# Altium integrated library TI Data Converters Analog to Digital Converter.IntLib: 2197 symbols (part 77 of 168)
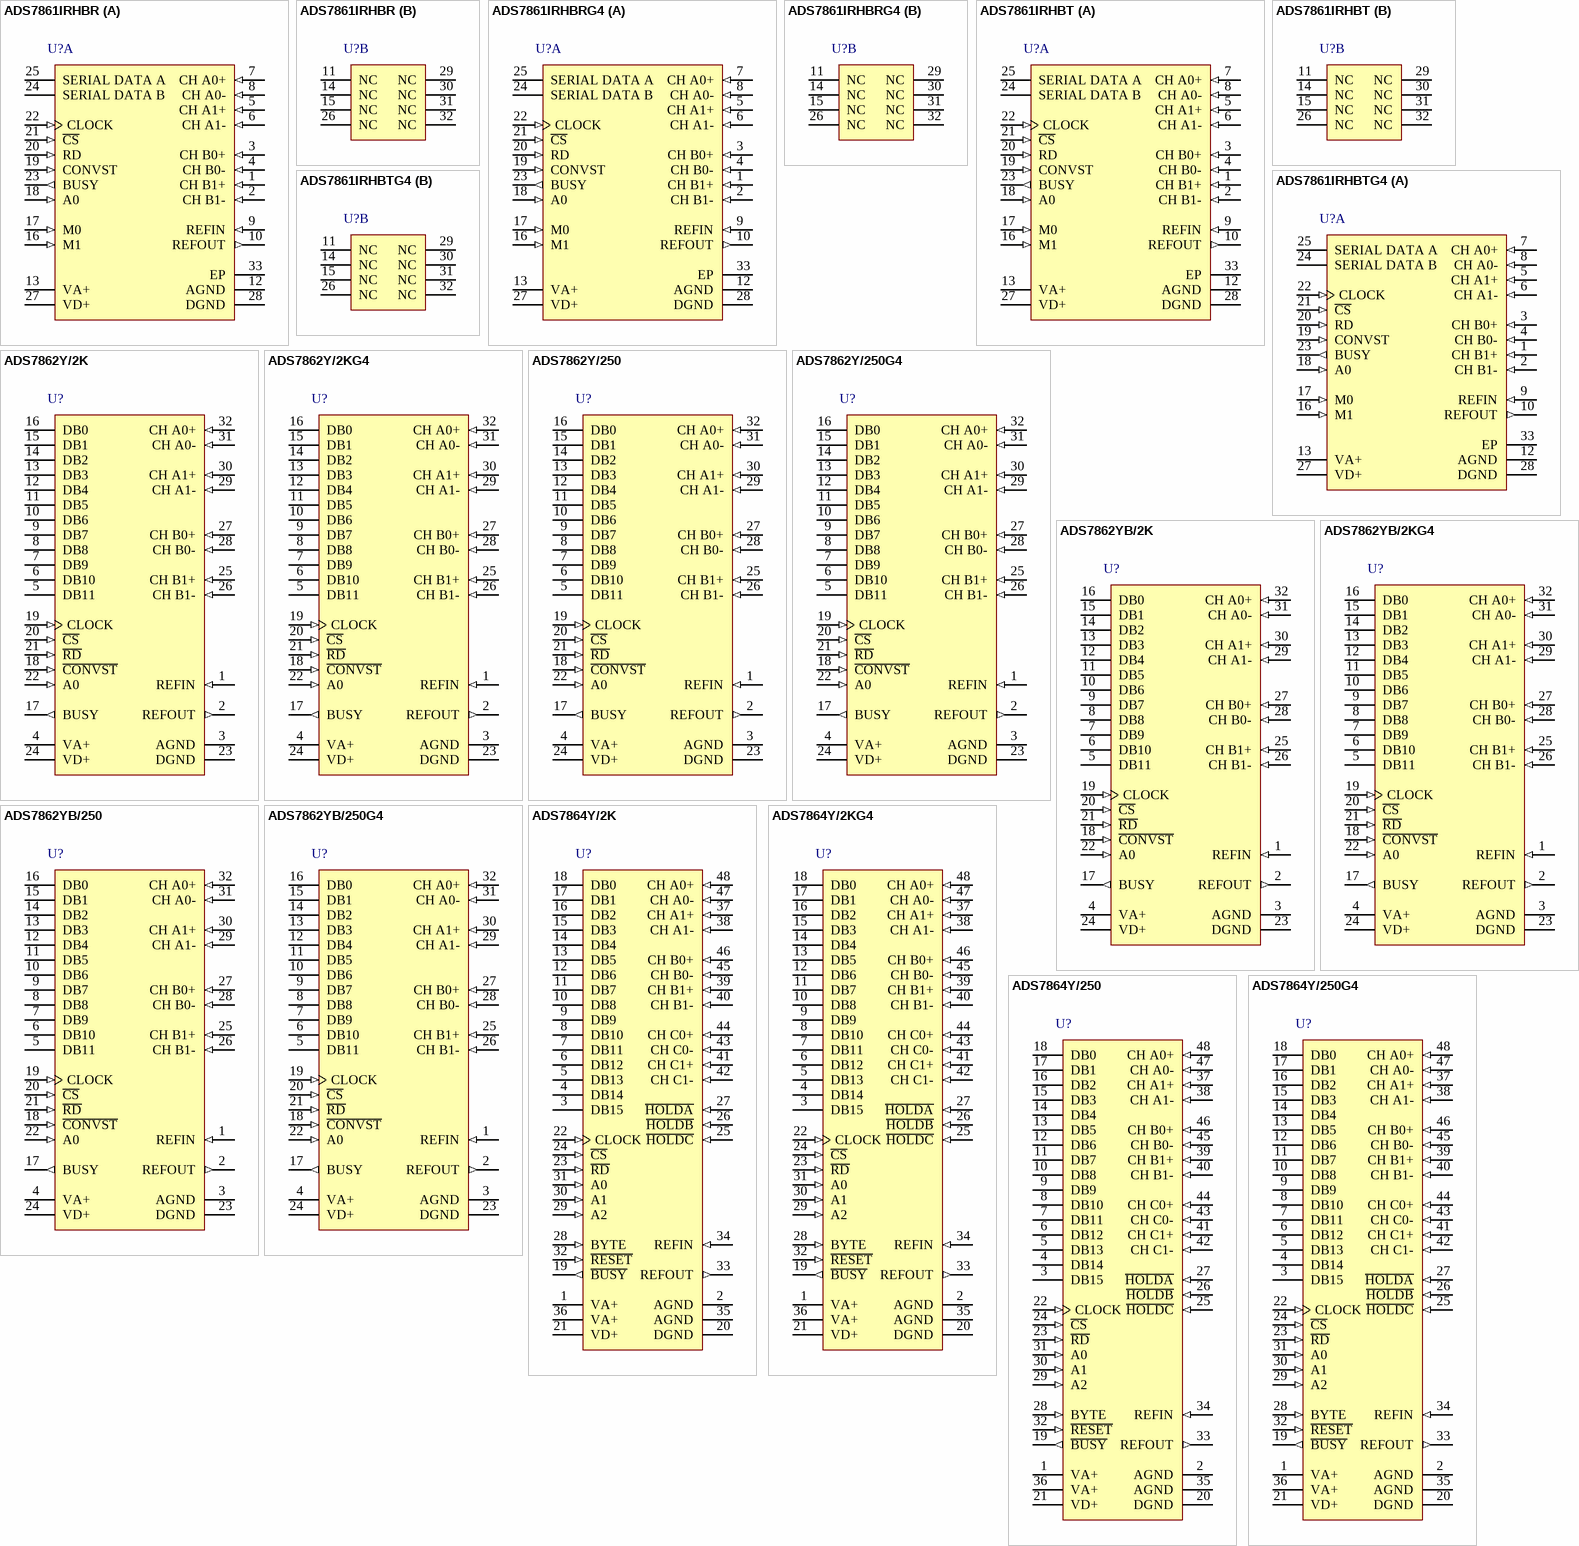
[diagram p202: symbols ADS7861IRHBR to ADS7864Y/250G4]

## ADS7864Y/250G4
designator U?
500 kHz, 12-Bit, 6-Channel Simultaneous Sampling ADC, -40 to 85 degC, 48-pin QFP (PFB48), Green (RoHS & no Sb/Br); Manufacturer: Texas Instruments; PartNumber: ADS7864Y/250G4; # Input Channels: 6; Analog Voltage AV/DD(Max)(V): 5.25; Analog Voltage AV/DD(Min)(V): 4.75; Architecture: SAR; INL(Max)(+/-LSB): 2; Interface: Parallel CMOS; Resolution(Bits): 12; Sample Rate (max)(SPS): 500k; SFDR(dB): 78; SINAD(dB): 71; SubFamily: Precision ADC (<=10MSPS); DatasheetVersion: SBAS141A; PackageVersion: 4073176/B, 10/1996; PackageReference: PFB48; PackageDescription: 48-Pin Plastic Flat Pack, Body 7 x 7 mm, Pitch 0.5 mm; Supplier 1: Digi-Key; Supplier Part Number 1: ADS7862Y/2K-ND; Supplier 2: Newark; Supplier Part Number 2: 74C7192; Supplier 3: Mouser; Supplier Part Number 3: 595-ADS7862Y/2K; Digital Supply(Max)(V): 5.25; Digital Supply(Min)(V): 4.75; Eco-Plan: Green (RoHS & no Sb/Br); Mounting Technology: Surface Mount; Code_JEDEC: MS-026; ComponentLink1Description: Manufacturer URL; ComponentLink1URL: http://www.ti.com/; ComponentLink2Description: Datasheet; ComponentLink2URL: http://www.ti.com/general/docs/lit/getliterature.tsp?genericPartNumber=ADS7864&fileType=pdf; ComponentLink3Description: Package Specification; ComponentLink3URL: http://www.ti.com/lit/ml/mtqf019a/mtqf019a.pdf
footprint TI-PFB48_N (QFP, 48-Leads, Body 7x7mm, Pitch 0.5mm, IPC Medium Density)
footprint TI-PFB48_L (QFP, 48-Leads, Body 7x7mm, Pitch 0.5mm, IPC High Density)
footprint TI-PFB48_M (QFP, 48-Leads, Body 7x7mm, Pitch 0.5mm, IPC Low Density)
pins: 1 VA+ (power) "Analog Power Supply. Normally +5V.", 2 AGND (power) "Analog Ground", 3 DB15 (hiz) "Data Valid Output: ‘1’ for data valid; ‘0’ for invalid data.", 4 DB14 (hiz) "Channel Address Output Pin (see Table 2)", 5 DB13 (hiz) "Channel Address Output Pin (see Table 2)", 6 DB12 (hiz) "Channel Address Output Pin (see Table 2)", 7 DB11 (hiz) "Data Bit 11 - MSB", 8 DB10 (hiz) "Data Bit 10", 9 DB9 (hiz) "Data Bit 9", 10 DB8 (hiz) "Data Bit 8", 11 DB7 (hiz) "Data Bit 7", 12 DB6 (hiz) "Data Bit 6", 13 DB5 (hiz) "Data Bit 5", 14 DB4 (hiz) "Data Bit 4", 15 DB3 (hiz) "Data Bit 3", 16 DB2 (hiz) "Data Bit 2", 17 DB1 (hiz) "Data Bit 1", 18 DB0 (hiz) "Data Bit 0 - LSB", 19 ~{BUSY} (out) "Low when a conversion is in progress.", 20 DGND (power) "Digital Ground", 21 VD+ (power) "Digital Power Supply, +5VDC", 22 CLOCK (in) "An external clock must be applied to the CLOCK input.", 23 ~{RD} (in) "RD Input. Enables the parallel output when used in conjunction with chip select.", 24 ~{CS} (in) "Chip Select", 25 ~{HOLDC} (in) "Places Channels C0 and C1 in hold mode.", 26 ~{HOLDB} (in) "Places Channels B0 and B1 in hold mode.", 27 ~{HOLDA} (in) "Places Channels A0 and A1 in hold mode.", 28 BYTE (in) "2 x 8 Output Capability. Active high.", 29 A2 (in) "A2 Address/Mode Select Pin (see Table 3).", 30 A1 (in) "A1 Address/Mode Select Pin (see Table 3).", 31 A0 (in) "A0 Address/Mode Select Pin (see Table 3).", 32 ~{RESET} (in) "Reset Pin", 33 REFOUT (out) "Reference Out", 34 REFIN (in) "Reference In", 35 AGND (power) "Analog Ground", 36 VA+ (power) "Analog Power Supply. Normally +5V.", 37 CH A1+ (in) "Noninverting Input Channel A1", 38 CH A1- (in) "Inverting Input Channel A1", 39 CH B1+ (in) "Noninverting Input Channel B1", 40 CH B1- (in) "Inverting Input Channel B1", 41 CH C1+ (in) "Noninverting Input Channel C1", 42 CH C1- (in) "Inverting Input Channel C1", 43 CH C0- (in) "Inverting Input Channel C0", 44 CH C0+ (in) "Noninverting Input Channel C0", 45 CH B0- (in) "Inverting Input Channel B0", 46 CH B0+ (in) "Noninverting Input Channel B0", 47 CH A0- (in) "Inverting Input Channel A0", 48 CH A0+ (in) "Noninverting Input Channel A0"

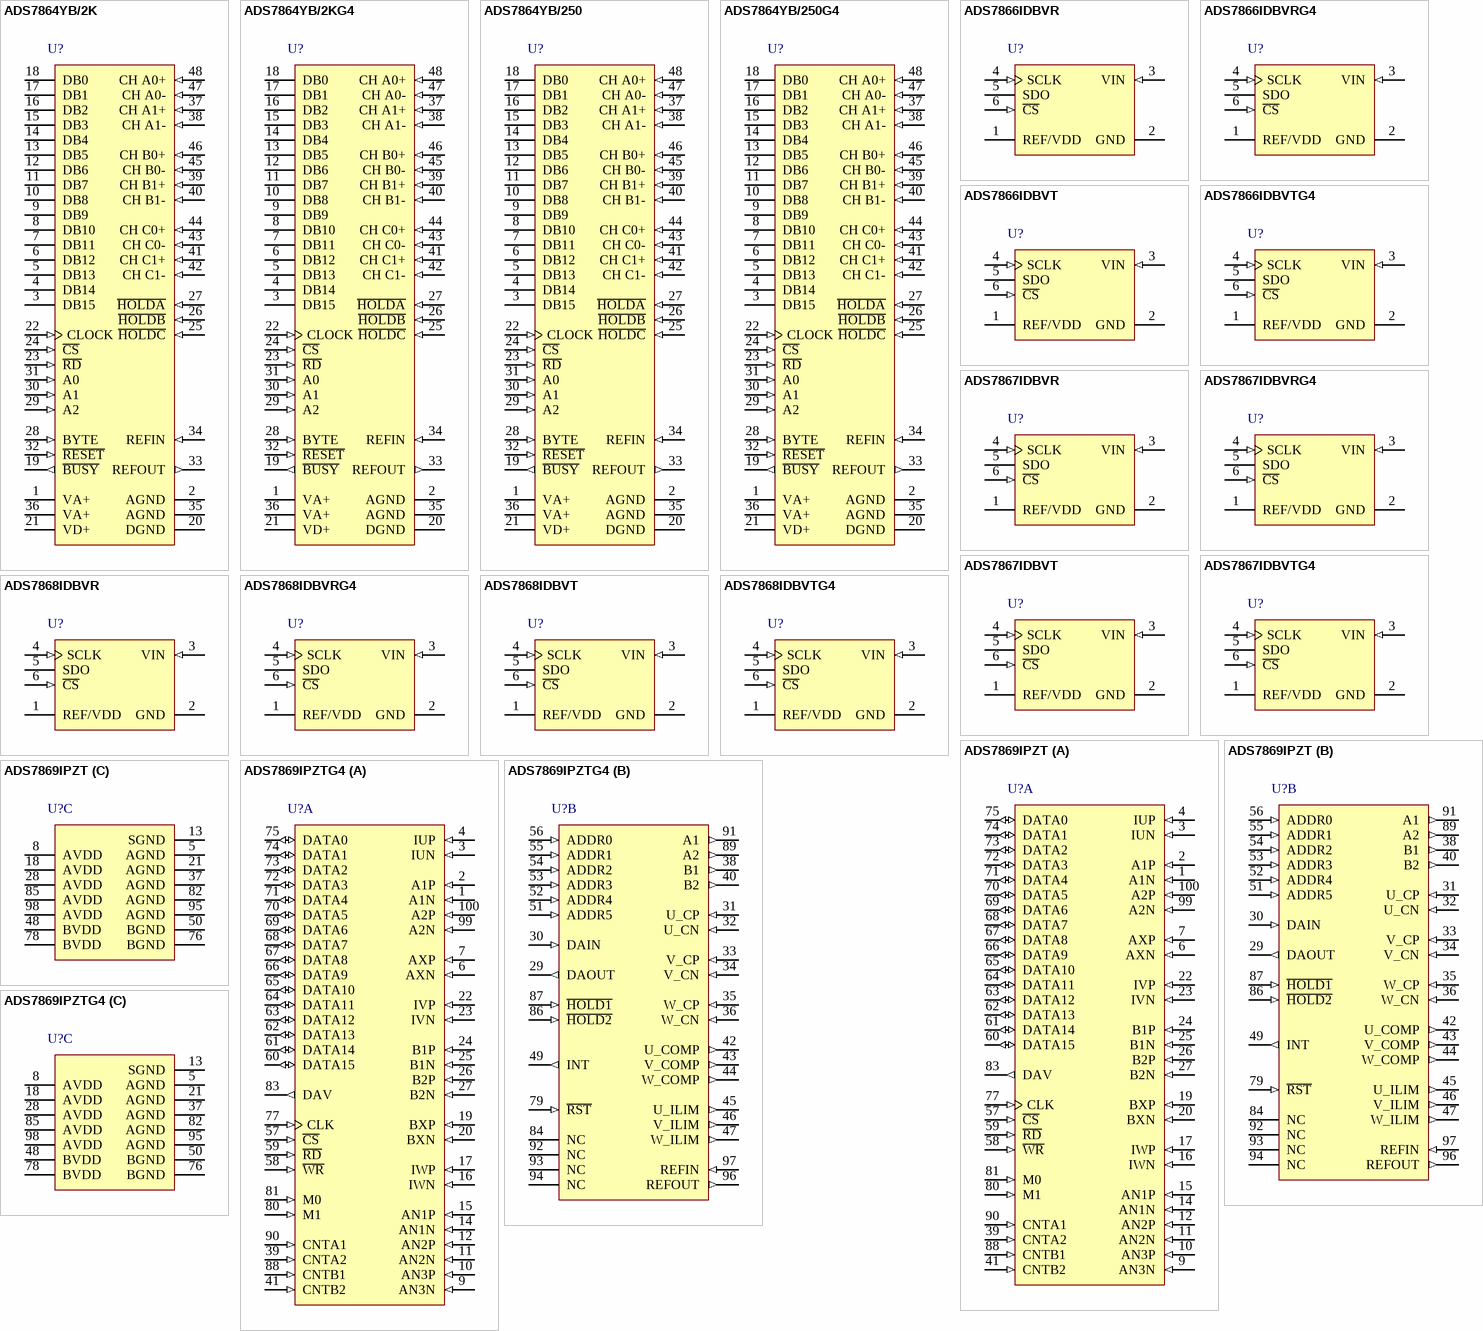
[diagram p68: symbols ADS7864YB/2K to ADS7869IPZTG4]

## ADS7864YB/2K
designator U?
500 kHz, 12-Bit, 6-Channel Simultaneous Sampling ADC, -40 to 85 degC, 48-pin QFP (PFB48), Green (RoHS & no Sb/Br); Manufacturer: Texas Instruments; PartNumber: ADS7864YB/2K; # Input Channels: 6; Analog Voltage AV/DD(Max)(V): 5.25; Analog Voltage AV/DD(Min)(V): 4.75; Architecture: SAR; INL(Max)(+/-LSB): 1; Interface: Parallel CMOS; Resolution(Bits): 12; Sample Rate (max)(SPS): 500k; SFDR(dB): 78; SINAD(dB): 71; SubFamily: Precision ADC (<=10MSPS); DatasheetVersion: SBAS141A; PackageVersion: 4073176/B, 10/1996; PackageReference: PFB48; PackageDescription: 48-Pin Plastic Flat Pack, Body 7 x 7 mm, Pitch 0.5 mm; Supplier 1: Digi-Key; Supplier Part Number 1: ADS7862Y/2KG4-ND; Supplier 2: Mouser; Supplier Part Number 2: 595-ADS7862Y/2KG4; Digital Supply(Max)(V): 5.25; Digital Supply(Min)(V): 4.75; Eco-Plan: Green (RoHS & no Sb/Br); Mounting Technology: Surface Mount; Code_JEDEC: MS-026; ComponentLink1Description: Manufacturer URL; ComponentLink1URL: http://www.ti.com/; ComponentLink2Description: Datasheet; ComponentLink2URL: http://www.ti.com/general/docs/lit/getliterature.tsp?genericPartNumber=ADS7864&fileType=pdf; ComponentLink3Description: Package Specification; ComponentLink3URL: http://www.ti.com/lit/ml/mtqf019a/mtqf019a.pdf
footprint TI-PFB48_N (QFP, 48-Leads, Body 7x7mm, Pitch 0.5mm, IPC Medium Density)
footprint TI-PFB48_L (QFP, 48-Leads, Body 7x7mm, Pitch 0.5mm, IPC High Density)
footprint TI-PFB48_M (QFP, 48-Leads, Body 7x7mm, Pitch 0.5mm, IPC Low Density)
pins: 1 VA+ (power) "Analog Power Supply. Normally +5V.", 2 AGND (power) "Analog Ground", 3 DB15 (hiz) "Data Valid Output: ‘1’ for data valid; ‘0’ for invalid data.", 4 DB14 (hiz) "Channel Address Output Pin (see Table 2)", 5 DB13 (hiz) "Channel Address Output Pin (see Table 2)", 6 DB12 (hiz) "Channel Address Output Pin (see Table 2)", 7 DB11 (hiz) "Data Bit 11 - MSB", 8 DB10 (hiz) "Data Bit 10", 9 DB9 (hiz) "Data Bit 9", 10 DB8 (hiz) "Data Bit 8", 11 DB7 (hiz) "Data Bit 7", 12 DB6 (hiz) "Data Bit 6", 13 DB5 (hiz) "Data Bit 5", 14 DB4 (hiz) "Data Bit 4", 15 DB3 (hiz) "Data Bit 3", 16 DB2 (hiz) "Data Bit 2", 17 DB1 (hiz) "Data Bit 1", 18 DB0 (hiz) "Data Bit 0 - LSB", 19 ~{BUSY} (out) "Low when a conversion is in progress.", 20 DGND (power) "Digital Ground", 21 VD+ (power) "Digital Power Supply, +5VDC", 22 CLOCK (in) "An external clock must be applied to the CLOCK input.", 23 ~{RD} (in) "RD Input. Enables the parallel output when used in conjunction with chip select.", 24 ~{CS} (in) "Chip Select", 25 ~{HOLDC} (in) "Places Channels C0 and C1 in hold mode.", 26 ~{HOLDB} (in) "Places Channels B0 and B1 in hold mode.", 27 ~{HOLDA} (in) "Places Channels A0 and A1 in hold mode.", 28 BYTE (in) "2 x 8 Output Capability. Active high.", 29 A2 (in) "A2 Address/Mode Select Pin (see Table 3).", 30 A1 (in) "A1 Address/Mode Select Pin (see Table 3).", 31 A0 (in) "A0 Address/Mode Select Pin (see Table 3).", 32 ~{RESET} (in) "Reset Pin", 33 REFOUT (out) "Reference Out", 34 REFIN (in) "Reference In", 35 AGND (power) "Analog Ground", 36 VA+ (power) "Analog Power Supply. Normally +5V.", 37 CH A1+ (in) "Noninverting Input Channel A1", 38 CH A1- (in) "Inverting Input Channel A1", 39 CH B1+ (in) "Noninverting Input Channel B1", 40 CH B1- (in) "Inverting Input Channel B1", 41 CH C1+ (in) "Noninverting Input Channel C1", 42 CH C1- (in) "Inverting Input Channel C1", 43 CH C0- (in) "Inverting Input Channel C0", 44 CH C0+ (in) "Noninverting Input Channel C0", 45 CH B0- (in) "Inverting Input Channel B0", 46 CH B0+ (in) "Noninverting Input Channel B0", 47 CH A0- (in) "Inverting Input Channel A0", 48 CH A0+ (in) "Noninverting Input Channel A0"

## ADS7864YB/2KG4
designator U?
500 kHz, 12-Bit, 6-Channel Simultaneous Sampling ADC, -40 to 85 degC, 48-pin QFP (PFB48), Green (RoHS & no Sb/Br); Manufacturer: Texas Instruments; PartNumber: ADS7864YB/2KG4; # Input Channels: 6; Analog Voltage AV/DD(Max)(V): 5.25; Analog Voltage AV/DD(Min)(V): 4.75; Architecture: SAR; INL(Max)(+/-LSB): 1; Interface: Parallel CMOS; Resolution(Bits): 12; Sample Rate (max)(SPS): 500k; SFDR(dB): 78; SINAD(dB): 71; SubFamily: Precision ADC (<=10MSPS); DatasheetVersion: SBAS141A; PackageVersion: 4073176/B, 10/1996; PackageReference: PFB48; PackageDescription: 48-Pin Plastic Flat Pack, Body 7 x 7 mm, Pitch 0.5 mm; Supplier 1: Digi-Key; Supplier Part Number 1: ADS7862YBTR-ND; Supplier 2: Digi-Key; Supplier Part Number 2: ADS7862YBCT-ND; Supplier 3: Digi-Key; Supplier Part Number 3: ADS7862YBDKR-ND; Supplier 4: Farnell; Supplier Part Number 4: 1329574; Supplier 5: Newark; Supplier Part Number 5: 35C1565; Supplier 6: Mouser; Supplier Part Number 6: 595-ADS7862YB/250; Digital Supply(Max)(V): 5.25; Digital Supply(Min)(V): 4.75; Eco-Plan: Green (RoHS & no Sb/Br); Mounting Technology: Surface Mount; Code_JEDEC: MS-026; ComponentLink1Description: Manufacturer URL; ComponentLink1URL: http://www.ti.com/; ComponentLink2Description: Datasheet; ComponentLink2URL: http://www.ti.com/general/docs/lit/getliterature.tsp?genericPartNumber=ADS7864&fileType=pdf; ComponentLink3Description: Package Specification; ComponentLink3URL: http://www.ti.com/lit/ml/mtqf019a/mtqf019a.pdf
footprint TI-PFB48_N (QFP, 48-Leads, Body 7x7mm, Pitch 0.5mm, IPC Medium Density)
footprint TI-PFB48_L (QFP, 48-Leads, Body 7x7mm, Pitch 0.5mm, IPC High Density)
footprint TI-PFB48_M (QFP, 48-Leads, Body 7x7mm, Pitch 0.5mm, IPC Low Density)
pins: 1 VA+ (power) "Analog Power Supply. Normally +5V.", 2 AGND (power) "Analog Ground", 3 DB15 (hiz) "Data Valid Output: ‘1’ for data valid; ‘0’ for invalid data.", 4 DB14 (hiz) "Channel Address Output Pin (see Table 2)", 5 DB13 (hiz) "Channel Address Output Pin (see Table 2)", 6 DB12 (hiz) "Channel Address Output Pin (see Table 2)", 7 DB11 (hiz) "Data Bit 11 - MSB", 8 DB10 (hiz) "Data Bit 10", 9 DB9 (hiz) "Data Bit 9", 10 DB8 (hiz) "Data Bit 8", 11 DB7 (hiz) "Data Bit 7", 12 DB6 (hiz) "Data Bit 6", 13 DB5 (hiz) "Data Bit 5", 14 DB4 (hiz) "Data Bit 4", 15 DB3 (hiz) "Data Bit 3", 16 DB2 (hiz) "Data Bit 2", 17 DB1 (hiz) "Data Bit 1", 18 DB0 (hiz) "Data Bit 0 - LSB", 19 ~{BUSY} (out) "Low when a conversion is in progress.", 20 DGND (power) "Digital Ground", 21 VD+ (power) "Digital Power Supply, +5VDC", 22 CLOCK (in) "An external clock must be applied to the CLOCK input.", 23 ~{RD} (in) "RD Input. Enables the parallel output when used in conjunction with chip select.", 24 ~{CS} (in) "Chip Select", 25 ~{HOLDC} (in) "Places Channels C0 and C1 in hold mode.", 26 ~{HOLDB} (in) "Places Channels B0 and B1 in hold mode.", 27 ~{HOLDA} (in) "Places Channels A0 and A1 in hold mode.", 28 BYTE (in) "2 x 8 Output Capability. Active high.", 29 A2 (in) "A2 Address/Mode Select Pin (see Table 3).", 30 A1 (in) "A1 Address/Mode Select Pin (see Table 3).", 31 A0 (in) "A0 Address/Mode Select Pin (see Table 3).", 32 ~{RESET} (in) "Reset Pin", 33 REFOUT (out) "Reference Out", 34 REFIN (in) "Reference In", 35 AGND (power) "Analog Ground", 36 VA+ (power) "Analog Power Supply. Normally +5V.", 37 CH A1+ (in) "Noninverting Input Channel A1", 38 CH A1- (in) "Inverting Input Channel A1", 39 CH B1+ (in) "Noninverting Input Channel B1", 40 CH B1- (in) "Inverting Input Channel B1", 41 CH C1+ (in) "Noninverting Input Channel C1", 42 CH C1- (in) "Inverting Input Channel C1", 43 CH C0- (in) "Inverting Input Channel C0", 44 CH C0+ (in) "Noninverting Input Channel C0", 45 CH B0- (in) "Inverting Input Channel B0", 46 CH B0+ (in) "Noninverting Input Channel B0", 47 CH A0- (in) "Inverting Input Channel A0", 48 CH A0+ (in) "Noninverting Input Channel A0"

## ADS7864YB/250
designator U?
500 kHz, 12-Bit, 6-Channel Simultaneous Sampling ADC, -40 to 85 degC, 48-pin QFP (PFB48), Green (RoHS & no Sb/Br); Manufacturer: Texas Instruments; PartNumber: ADS7864YB/250; # Input Channels: 6; Analog Voltage AV/DD(Max)(V): 5.25; Analog Voltage AV/DD(Min)(V): 4.75; Architecture: SAR; INL(Max)(+/-LSB): 1; Interface: Parallel CMOS; Resolution(Bits): 12; Sample Rate (max)(SPS): 500k; SFDR(dB): 78; SINAD(dB): 71; SubFamily: Precision ADC (<=10MSPS); DatasheetVersion: SBAS141A; PackageVersion: 4073176/B, 10/1996; PackageReference: PFB48; PackageDescription: 48-Pin Plastic Flat Pack, Body 7 x 7 mm, Pitch 0.5 mm; Supplier 1: Digi-Key; Supplier Part Number 1: ADS7862YB/250G4-ND; Supplier 2: Mouser; Supplier Part Number 2: 595-ADS7862YB/250G4; Digital Supply(Max)(V): 5.25; Digital Supply(Min)(V): 4.75; Eco-Plan: Green (RoHS & no Sb/Br); Mounting Technology: Surface Mount; Code_JEDEC: MS-026; ComponentLink1Description: Manufacturer URL; ComponentLink1URL: http://www.ti.com/; ComponentLink2Description: Datasheet; ComponentLink2URL: http://www.ti.com/general/docs/lit/getliterature.tsp?genericPartNumber=ADS7864&fileType=pdf; ComponentLink3Description: Package Specification; ComponentLink3URL: http://www.ti.com/lit/ml/mtqf019a/mtqf019a.pdf
footprint TI-PFB48_N (QFP, 48-Leads, Body 7x7mm, Pitch 0.5mm, IPC Medium Density)
footprint TI-PFB48_L (QFP, 48-Leads, Body 7x7mm, Pitch 0.5mm, IPC High Density)
footprint TI-PFB48_M (QFP, 48-Leads, Body 7x7mm, Pitch 0.5mm, IPC Low Density)
pins: 1 VA+ (power) "Analog Power Supply. Normally +5V.", 2 AGND (power) "Analog Ground", 3 DB15 (hiz) "Data Valid Output: ‘1’ for data valid; ‘0’ for invalid data.", 4 DB14 (hiz) "Channel Address Output Pin (see Table 2)", 5 DB13 (hiz) "Channel Address Output Pin (see Table 2)", 6 DB12 (hiz) "Channel Address Output Pin (see Table 2)", 7 DB11 (hiz) "Data Bit 11 - MSB", 8 DB10 (hiz) "Data Bit 10", 9 DB9 (hiz) "Data Bit 9", 10 DB8 (hiz) "Data Bit 8", 11 DB7 (hiz) "Data Bit 7", 12 DB6 (hiz) "Data Bit 6", 13 DB5 (hiz) "Data Bit 5", 14 DB4 (hiz) "Data Bit 4", 15 DB3 (hiz) "Data Bit 3", 16 DB2 (hiz) "Data Bit 2", 17 DB1 (hiz) "Data Bit 1", 18 DB0 (hiz) "Data Bit 0 - LSB", 19 ~{BUSY} (out) "Low when a conversion is in progress.", 20 DGND (power) "Digital Ground", 21 VD+ (power) "Digital Power Supply, +5VDC", 22 CLOCK (in) "An external clock must be applied to the CLOCK input.", 23 ~{RD} (in) "RD Input. Enables the parallel output when used in conjunction with chip select.", 24 ~{CS} (in) "Chip Select", 25 ~{HOLDC} (in) "Places Channels C0 and C1 in hold mode.", 26 ~{HOLDB} (in) "Places Channels B0 and B1 in hold mode.", 27 ~{HOLDA} (in) "Places Channels A0 and A1 in hold mode.", 28 BYTE (in) "2 x 8 Output Capability. Active high.", 29 A2 (in) "A2 Address/Mode Select Pin (see Table 3).", 30 A1 (in) "A1 Address/Mode Select Pin (see Table 3).", 31 A0 (in) "A0 Address/Mode Select Pin (see Table 3).", 32 ~{RESET} (in) "Reset Pin", 33 REFOUT (out) "Reference Out", 34 REFIN (in) "Reference In", 35 AGND (power) "Analog Ground", 36 VA+ (power) "Analog Power Supply. Normally +5V.", 37 CH A1+ (in) "Noninverting Input Channel A1", 38 CH A1- (in) "Inverting Input Channel A1", 39 CH B1+ (in) "Noninverting Input Channel B1", 40 CH B1- (in) "Inverting Input Channel B1", 41 CH C1+ (in) "Noninverting Input Channel C1", 42 CH C1- (in) "Inverting Input Channel C1", 43 CH C0- (in) "Inverting Input Channel C0", 44 CH C0+ (in) "Noninverting Input Channel C0", 45 CH B0- (in) "Inverting Input Channel B0", 46 CH B0+ (in) "Noninverting Input Channel B0", 47 CH A0- (in) "Inverting Input Channel A0", 48 CH A0+ (in) "Noninverting Input Channel A0"

## ADS7864YB/250G4
designator U?
500 kHz, 12-Bit, 6-Channel Simultaneous Sampling ADC, -40 to 85 degC, 48-pin QFP (PFB48), Green (RoHS & no Sb/Br); Manufacturer: Texas Instruments; PartNumber: ADS7864YB/250G4; # Input Channels: 6; Analog Voltage AV/DD(Max)(V): 5.25; Analog Voltage AV/DD(Min)(V): 4.75; Architecture: SAR; INL(Max)(+/-LSB): 1; Interface: Parallel CMOS; Resolution(Bits): 12; Sample Rate (max)(SPS): 500k; SFDR(dB): 78; SINAD(dB): 71; SubFamily: Precision ADC (<=10MSPS); DatasheetVersion: SBAS141A; PackageVersion: 4073176/B, 10/1996; PackageReference: PFB48; PackageDescription: 48-Pin Plastic Flat Pack, Body 7 x 7 mm, Pitch 0.5 mm; Supplier 1: Digi-Key; Supplier Part Number 1: ADS7862YB/2K-ND; Supplier 2: Mouser; Supplier Part Number 2: 595-ADS7862YB/2K; Digital Supply(Max)(V): 5.25; Digital Supply(Min)(V): 4.75; Eco-Plan: Green (RoHS & no Sb/Br); Mounting Technology: Surface Mount; Code_JEDEC: MS-026; ComponentLink1Description: Manufacturer URL; ComponentLink1URL: http://www.ti.com/; ComponentLink2Description: Datasheet; ComponentLink2URL: http://www.ti.com/general/docs/lit/getliterature.tsp?genericPartNumber=ADS7864&fileType=pdf; ComponentLink3Description: Package Specification; ComponentLink3URL: http://www.ti.com/lit/ml/mtqf019a/mtqf019a.pdf
footprint TI-PFB48_N (QFP, 48-Leads, Body 7x7mm, Pitch 0.5mm, IPC Medium Density)
footprint TI-PFB48_L (QFP, 48-Leads, Body 7x7mm, Pitch 0.5mm, IPC High Density)
footprint TI-PFB48_M (QFP, 48-Leads, Body 7x7mm, Pitch 0.5mm, IPC Low Density)
pins: 1 VA+ (power) "Analog Power Supply. Normally +5V.", 2 AGND (power) "Analog Ground", 3 DB15 (hiz) "Data Valid Output: ‘1’ for data valid; ‘0’ for invalid data.", 4 DB14 (hiz) "Channel Address Output Pin (see Table 2)", 5 DB13 (hiz) "Channel Address Output Pin (see Table 2)", 6 DB12 (hiz) "Channel Address Output Pin (see Table 2)", 7 DB11 (hiz) "Data Bit 11 - MSB", 8 DB10 (hiz) "Data Bit 10", 9 DB9 (hiz) "Data Bit 9", 10 DB8 (hiz) "Data Bit 8", 11 DB7 (hiz) "Data Bit 7", 12 DB6 (hiz) "Data Bit 6", 13 DB5 (hiz) "Data Bit 5", 14 DB4 (hiz) "Data Bit 4", 15 DB3 (hiz) "Data Bit 3", 16 DB2 (hiz) "Data Bit 2", 17 DB1 (hiz) "Data Bit 1", 18 DB0 (hiz) "Data Bit 0 - LSB", 19 ~{BUSY} (out) "Low when a conversion is in progress.", 20 DGND (power) "Digital Ground", 21 VD+ (power) "Digital Power Supply, +5VDC", 22 CLOCK (in) "An external clock must be applied to the CLOCK input.", 23 ~{RD} (in) "RD Input. Enables the parallel output when used in conjunction with chip select.", 24 ~{CS} (in) "Chip Select", 25 ~{HOLDC} (in) "Places Channels C0 and C1 in hold mode.", 26 ~{HOLDB} (in) "Places Channels B0 and B1 in hold mode.", 27 ~{HOLDA} (in) "Places Channels A0 and A1 in hold mode.", 28 BYTE (in) "2 x 8 Output Capability. Active high.", 29 A2 (in) "A2 Address/Mode Select Pin (see Table 3).", 30 A1 (in) "A1 Address/Mode Select Pin (see Table 3).", 31 A0 (in) "A0 Address/Mode Select Pin (see Table 3).", 32 ~{RESET} (in) "Reset Pin", 33 REFOUT (out) "Reference Out", 34 REFIN (in) "Reference In", 35 AGND (power) "Analog Ground", 36 VA+ (power) "Analog Power Supply. Normally +5V.", 37 CH A1+ (in) "Noninverting Input Channel A1", 38 CH A1- (in) "Inverting Input Channel A1", 39 CH B1+ (in) "Noninverting Input Channel B1", 40 CH B1- (in) "Inverting Input Channel B1", 41 CH C1+ (in) "Noninverting Input Channel C1", 42 CH C1- (in) "Inverting Input Channel C1", 43 CH C0- (in) "Inverting Input Channel C0", 44 CH C0+ (in) "Noninverting Input Channel C0", 45 CH B0- (in) "Inverting Input Channel B0", 46 CH B0+ (in) "Noninverting Input Channel B0", 47 CH A0- (in) "Inverting Input Channel A0", 48 CH A0+ (in) "Noninverting Input Channel A0"

## ADS7866IDBVR
designator U?
1.2 V, 12-Bit 200 kSPS, Serial ADC, -40 to 85 degC, 6-pin SOT23 (DBV6), Green (RoHS & no Sb/Br); Manufacturer: Texas Instruments; PartNumber: ADS7866IDBVR; # Input Channels: 1; Analog Voltage AV/DD(Max)(V): 3.6; Analog Voltage AV/DD(Min)(V): 1.2; Architecture: SAR; INL(Max)(+/-LSB): 1.5; Interface: Serial SPI; Resolution(Bits): 12; Sample Rate (max)(SPS): 200k; SFDR(dB): 85; SINAD(dB): 70; SNR(dB): 71; SubFamily: Precision ADC (<=10MSPS); DatasheetVersion: SLAS465; PackageVersion: 4073253-5/K, 03/2006; PackageReference: DBV6; PackageDescription: 6-Pin Plastic Small Outline, Body 1.6 x 2.9 mm, Pitch 0.95 mm; Supplier 1: Digi-Key; Supplier Part Number 1: ADS7862YB/2KG4-ND; Supplier 2: Mouser; Supplier Part Number 2: 595-ADS7862YB/2KG4; Digital Supply(Max)(V): 3.6; Digital Supply(Min)(V): 1.2; Eco-Plan: Green (RoHS & no Sb/Br); Mounting Technology: Surface Mount; Code_JEDEC: MO-178; ComponentLink1Description: Manufacturer URL; ComponentLink1URL: http://www.ti.com/; ComponentLink2Description: Datasheet; ComponentLink2URL: http://www.ti.com/general/docs/lit/getliterature.tsp?genericPartNumber=ADS7866&fileType=pdf; ComponentLink3Description: Package Specification; ComponentLink3URL: http://www.ti.com/litv/pdf/mpds026h
footprint TI-DBV6_N (SOT23, 6-Leads, Body 2.9x1.6mm, Pitch 0.95mm, IPC Medium Density)
footprint TI-DBV6_L (SOT23, 6-Leads, Body 2.9x1.6mm, Pitch 0.95mm, IPC High Density)
footprint TI-DBV6_M (SOT23, 6-Leads, Body 2.9x1.6mm, Pitch 0.95mm, IPC Low Density)
pins: 1 REF/VDD (power) "External reference input and power supply", 2 GND (power) "Ground for signal and power supply. All analog and digital signals are referred with respect to this pin.", 3 VIN (in) "Analog signal input", 4 SCLK (in) "Serial clock input. This clock is used for clocking data out, and it is the source of conversion clock.", 5 SDO (hiz) "This is the serial data output of the conversion result. The serial stream comes with MSB first. The MSB is clocked out (changed) on the falling edge one SCLK after the sampling period ends. This results in four leading (See Datasheet)", 6 ~{CS} (in) "This is an active low input signal. It is used as a chip select to gate the SCLK input, to initiate a conversion, and to frame output data."

## ADS7866IDBVRG4
designator U?
1.2 V, 12-Bit 200 kSPS, Serial ADC, -40 to 85 degC, 6-pin SOT23 (DBV6), Green (RoHS & no Sb/Br); Manufacturer: Texas Instruments; PartNumber: ADS7866IDBVRG4; # Input Channels: 1; Analog Voltage AV/DD(Max)(V): 3.6; Analog Voltage AV/DD(Min)(V): 1.2; Architecture: SAR; INL(Max)(+/-LSB): 1.5; Interface: Serial SPI; Resolution(Bits): 12; Sample Rate (max)(SPS): 200k; SFDR(dB): 85; SINAD(dB): 70; SNR(dB): 71; SubFamily: Precision ADC (<=10MSPS); DatasheetVersion: SLAS465; PackageVersion: 4073253-5/K, 03/2006; PackageReference: DBV6; PackageDescription: 6-Pin Plastic Small Outline, Body 1.6 x 2.9 mm, Pitch 0.95 mm; Supplier 1: Digi-Key; Supplier Part Number 1: ADS7835ETR-ND; Supplier 2: Digi-Key; Supplier Part Number 2: ADS7835ECT-ND; Supplier 3: Digi-Key; Supplier Part Number 3: ADS7835EDKR-ND; Supplier 4: Newark; Supplier Part Number 4: 74K3634; Supplier 5: Mouser; Supplier Part Number 5: 595-ADS7835E/250; Digital Supply(Max)(V): 3.6; Digital Supply(Min)(V): 1.2; Eco-Plan: Green (RoHS & no Sb/Br); Mounting Technology: Surface Mount; Code_JEDEC: MO-178; ComponentLink1Description: Manufacturer URL; ComponentLink1URL: http://www.ti.com/; ComponentLink2Description: Datasheet; ComponentLink2URL: http://www.ti.com/general/docs/lit/getliterature.tsp?genericPartNumber=ADS7866&fileType=pdf; ComponentLink3Description: Package Specification; ComponentLink3URL: http://www.ti.com/litv/pdf/mpds026h
footprint TI-DBV6_N (SOT23, 6-Leads, Body 2.9x1.6mm, Pitch 0.95mm, IPC Medium Density)
footprint TI-DBV6_L (SOT23, 6-Leads, Body 2.9x1.6mm, Pitch 0.95mm, IPC High Density)
footprint TI-DBV6_M (SOT23, 6-Leads, Body 2.9x1.6mm, Pitch 0.95mm, IPC Low Density)
pins: 1 REF/VDD (power) "External reference input and power supply", 2 GND (power) "Ground for signal and power supply. All analog and digital signals are referred with respect to this pin.", 3 VIN (in) "Analog signal input", 4 SCLK (in) "Serial clock input. This clock is used for clocking data out, and it is the source of conversion clock.", 5 SDO (hiz) "This is the serial data output of the conversion result. The serial stream comes with MSB first. The MSB is clocked out (changed) on the falling edge one SCLK after the sampling period ends. This results in four leading (See Datasheet)", 6 ~{CS} (in) "This is an active low input signal. It is used as a chip select to gate the SCLK input, to initiate a conversion, and to frame output data."

## ADS7866IDBVT
designator U?
1.2 V, 12-Bit 200 kSPS, Serial ADC, -40 to 85 degC, 6-pin SOT23 (DBV6), Green (RoHS & no Sb/Br); Manufacturer: Texas Instruments; PartNumber: ADS7866IDBVT; # Input Channels: 1; Analog Voltage AV/DD(Max)(V): 3.6; Analog Voltage AV/DD(Min)(V): 1.2; Architecture: SAR; INL(Max)(+/-LSB): 1.5; Interface: Serial SPI; Resolution(Bits): 12; Sample Rate (max)(SPS): 200k; SFDR(dB): 85; SINAD(dB): 70; SNR(dB): 71; SubFamily: Precision ADC (<=10MSPS); DatasheetVersion: SLAS465; PackageVersion: 4073253-5/K, 03/2006; PackageReference: DBV6; PackageDescription: 6-Pin Plastic Small Outline, Body 1.6 x 2.9 mm, Pitch 0.95 mm; Supplier 1: Digi-Key; Supplier Part Number 1: ADS7835E/250G4-ND; Supplier 2: Farnell; Supplier Part Number 2: 1234992; Supplier 3: Newark; Supplier Part Number 3: 73K7086; Supplier 4: Mouser; Supplier Part Number 4: 595-ADS7835E/250G4; Digital Supply(Max)(V): 3.6; Digital Supply(Min)(V): 1.2; Eco-Plan: Green (RoHS & no Sb/Br); Mounting Technology: Surface Mount; Code_JEDEC: MO-178; ComponentLink1Description: Manufacturer URL; ComponentLink1URL: http://www.ti.com/; ComponentLink2Description: Datasheet; ComponentLink2URL: http://www.ti.com/general/docs/lit/getliterature.tsp?genericPartNumber=ADS7866&fileType=pdf; ComponentLink3Description: Package Specification; ComponentLink3URL: http://www.ti.com/litv/pdf/mpds026h
footprint TI-DBV6_N (SOT23, 6-Leads, Body 2.9x1.6mm, Pitch 0.95mm, IPC Medium Density)
footprint TI-DBV6_L (SOT23, 6-Leads, Body 2.9x1.6mm, Pitch 0.95mm, IPC High Density)
footprint TI-DBV6_M (SOT23, 6-Leads, Body 2.9x1.6mm, Pitch 0.95mm, IPC Low Density)
pins: 1 REF/VDD (power) "External reference input and power supply", 2 GND (power) "Ground for signal and power supply. All analog and digital signals are referred with respect to this pin.", 3 VIN (in) "Analog signal input", 4 SCLK (in) "Serial clock input. This clock is used for clocking data out, and it is the source of conversion clock.", 5 SDO (hiz) "This is the serial data output of the conversion result. The serial stream comes with MSB first. The MSB is clocked out (changed) on the falling edge one SCLK after the sampling period ends. This results in four leading (See Datasheet)", 6 ~{CS} (in) "This is an active low input signal. It is used as a chip select to gate the SCLK input, to initiate a conversion, and to frame output data."

## ADS7866IDBVTG4
designator U?
1.2 V, 12-Bit 200 kSPS, Serial ADC, -40 to 85 degC, 6-pin SOT23 (DBV6), Green (RoHS & no Sb/Br); Manufacturer: Texas Instruments; PartNumber: ADS7866IDBVTG4; # Input Channels: 1; Analog Voltage AV/DD(Max)(V): 3.6; Analog Voltage AV/DD(Min)(V): 1.2; Architecture: SAR; INL(Max)(+/-LSB): 1.5; Interface: Serial SPI; Resolution(Bits): 12; Sample Rate (max)(SPS): 200k; SFDR(dB): 85; SINAD(dB): 70; SNR(dB): 71; SubFamily: Precision ADC (<=10MSPS); DatasheetVersion: SLAS465; PackageVersion: 4073253-5/K, 03/2006; PackageReference: DBV6; PackageDescription: 6-Pin Plastic Small Outline, Body 1.6 x 2.9 mm, Pitch 0.95 mm; Supplier 1: Digi-Key; Supplier Part Number 1: ADS7835E/2K5-ND; Supplier 2: Newark; Supplier Part Number 2: 74C7165; Supplier 3: Mouser; Supplier Part Number 3: 595-ADS7835E/2K5; Digital Supply(Max)(V): 3.6; Digital Supply(Min)(V): 1.2; Eco-Plan: Green (RoHS & no Sb/Br); Mounting Technology: Surface Mount; Code_JEDEC: MO-178; ComponentLink1Description: Manufacturer URL; ComponentLink1URL: http://www.ti.com/; ComponentLink2Description: Datasheet; ComponentLink2URL: http://www.ti.com/general/docs/lit/getliterature.tsp?genericPartNumber=ADS7866&fileType=pdf; ComponentLink3Description: Package Specification; ComponentLink3URL: http://www.ti.com/litv/pdf/mpds026h
footprint TI-DBV6_N (SOT23, 6-Leads, Body 2.9x1.6mm, Pitch 0.95mm, IPC Medium Density)
footprint TI-DBV6_L (SOT23, 6-Leads, Body 2.9x1.6mm, Pitch 0.95mm, IPC High Density)
footprint TI-DBV6_M (SOT23, 6-Leads, Body 2.9x1.6mm, Pitch 0.95mm, IPC Low Density)
pins: 1 REF/VDD (power) "External reference input and power supply", 2 GND (power) "Ground for signal and power supply. All analog and digital signals are referred with respect to this pin.", 3 VIN (in) "Analog signal input", 4 SCLK (in) "Serial clock input. This clock is used for clocking data out, and it is the source of conversion clock.", 5 SDO (hiz) "This is the serial data output of the conversion result. The serial stream comes with MSB first. The MSB is clocked out (changed) on the falling edge one SCLK after the sampling period ends. This results in four leading (See Datasheet)", 6 ~{CS} (in) "This is an active low input signal. It is used as a chip select to gate the SCLK input, to initiate a conversion, and to frame output data."

## ADS7867IDBVR
designator U?
1.2 V, 10-Bit 240 kSPS, Serial ADC, -40 to 85 degC, 6-pin SOT23 (DBV6), Green (RoHS & no Sb/Br); Manufacturer: Texas Instruments; PartNumber: ADS7867IDBVR; # Input Channels: 1; Analog Voltage AV/DD(Max)(V): 3.6; Analog Voltage AV/DD(Min)(V): 1.2; Architecture: SAR; ENOB(Bits): 9.96; INL(Max)(+/-LSB): 0.5; Interface: Serial SPI; Resolution(Bits): 10; Sample Rate (max)(SPS): 240k; SFDR(dB): 80; SINAD(dB): 61.7; SNR(dB): 61.8; SubFamily: Precision ADC (<=10MSPS); DatasheetVersion: SLAS465; PackageVersion: 4073253-5/K, 03/2006; PackageReference: DBV6; PackageDescription: 6-Pin Plastic Small Outline, Body 1.6 x 2.9 mm, Pitch 0.95 mm; Supplier 1: Digi-Key; Supplier Part Number 1: ADS7835E/2K5G4-ND; Supplier 2: Newark; Supplier Part Number 2: 80K1171; Supplier 3: Mouser; Supplier Part Number 3: 595-ADS7835E/2K5G4; Digital Supply(Max)(V): 3.6; Digital Supply(Min)(V): 1.2; Eco-Plan: Green (RoHS & no Sb/Br); Mounting Technology: Surface Mount; Code_JEDEC: MO-178; ComponentLink1Description: Manufacturer URL; ComponentLink1URL: http://www.ti.com/; ComponentLink2Description: Datasheet; ComponentLink2URL: http://www.ti.com/general/docs/lit/getliterature.tsp?genericPartNumber=ADS7867&fileType=pdf; ComponentLink3Description: Package Specification; ComponentLink3URL: http://www.ti.com/litv/pdf/mpds026h
footprint TI-DBV6_N (SOT23, 6-Leads, Body 2.9x1.6mm, Pitch 0.95mm, IPC Medium Density)
footprint TI-DBV6_L (SOT23, 6-Leads, Body 2.9x1.6mm, Pitch 0.95mm, IPC High Density)
footprint TI-DBV6_M (SOT23, 6-Leads, Body 2.9x1.6mm, Pitch 0.95mm, IPC Low Density)
pins: 1 REF/VDD (power) "External reference input and power supply", 2 GND (power) "Ground for signal and power supply. All analog and digital signals are referred with respect to this pin.", 3 VIN (in) "Analog signal input", 4 SCLK (in) "Serial clock input. This clock is used for clocking data out, and it is the source of conversion clock.", 5 SDO (hiz) "This is the serial data output of the conversion result. The serial stream comes with MSB first. The MSB is clocked out (changed) on the falling edge one SCLK after the sampling period ends. This results in four leading (See Datasheet)", 6 ~{CS} (in) "This is an active low input signal. It is used as a chip select to gate the SCLK input, to initiate a conversion, and to frame output data."

## ADS7867IDBVRG4
designator U?
1.2 V, 10-Bit 240 kSPS, Serial ADC, -40 to 85 degC, 6-pin SOT23 (DBV6), Green (RoHS & no Sb/Br); Manufacturer: Texas Instruments; PartNumber: ADS7867IDBVRG4; # Input Channels: 1; Analog Voltage AV/DD(Max)(V): 3.6; Analog Voltage AV/DD(Min)(V): 1.2; Architecture: SAR; ENOB(Bits): 9.96; INL(Max)(+/-LSB): 0.5; Interface: Serial SPI; Resolution(Bits): 10; Sample Rate (max)(SPS): 240k; SFDR(dB): 80; SINAD(dB): 61.7; SNR(dB): 61.8; SubFamily: Precision ADC (<=10MSPS); DatasheetVersion: SLAS465; PackageVersion: 4073253-5/K, 03/2006; PackageReference: DBV6; PackageDescription: 6-Pin Plastic Small Outline, Body 1.6 x 2.9 mm, Pitch 0.95 mm; Supplier 1: Digi-Key; Supplier Part Number 1: ADS7835EBTR-ND; Supplier 2: Digi-Key; Supplier Part Number 2: ADS7835EBCT-ND; Supplier 3: Digi-Key; Supplier Part Number 3: ADS7835EBDKR-ND; Supplier 4: Mouser; Supplier Part Number 4: 595-ADS7835EB/250; Digital Supply(Max)(V): 3.6; Digital Supply(Min)(V): 1.2; Eco-Plan: Green (RoHS & no Sb/Br); Mounting Technology: Surface Mount; Code_JEDEC: MO-178; ComponentLink1Description: Manufacturer URL; ComponentLink1URL: http://www.ti.com/; ComponentLink2Description: Datasheet; ComponentLink2URL: http://www.ti.com/general/docs/lit/getliterature.tsp?genericPartNumber=ADS7867&fileType=pdf; ComponentLink3Description: Package Specification; ComponentLink3URL: http://www.ti.com/litv/pdf/mpds026h
footprint TI-DBV6_N (SOT23, 6-Leads, Body 2.9x1.6mm, Pitch 0.95mm, IPC Medium Density)
footprint TI-DBV6_L (SOT23, 6-Leads, Body 2.9x1.6mm, Pitch 0.95mm, IPC High Density)
footprint TI-DBV6_M (SOT23, 6-Leads, Body 2.9x1.6mm, Pitch 0.95mm, IPC Low Density)
pins: 1 REF/VDD (power) "External reference input and power supply", 2 GND (power) "Ground for signal and power supply. All analog and digital signals are referred with respect to this pin.", 3 VIN (in) "Analog signal input", 4 SCLK (in) "Serial clock input. This clock is used for clocking data out, and it is the source of conversion clock.", 5 SDO (hiz) "This is the serial data output of the conversion result. The serial stream comes with MSB first. The MSB is clocked out (changed) on the falling edge one SCLK after the sampling period ends. This results in four leading (See Datasheet)", 6 ~{CS} (in) "This is an active low input signal. It is used as a chip select to gate the SCLK input, to initiate a conversion, and to frame output data."

## ADS7867IDBVT
designator U?
1.2 V, 10-Bit 240 kSPS, Serial ADC, -40 to 85 degC, 6-pin SOT23 (DBV6), Green (RoHS & no Sb/Br); Manufacturer: Texas Instruments; PartNumber: ADS7867IDBVT; # Input Channels: 1; Analog Voltage AV/DD(Max)(V): 3.6; Analog Voltage AV/DD(Min)(V): 1.2; Architecture: SAR; ENOB(Bits): 9.96; INL(Max)(+/-LSB): 0.5; Interface: Serial SPI; Resolution(Bits): 10; Sample Rate (max)(SPS): 240k; SFDR(dB): 80; SINAD(dB): 61.7; SNR(dB): 61.8; SubFamily: Precision ADC (<=10MSPS); DatasheetVersion: SLAS465; PackageVersion: 4073253-5/K, 03/2006; PackageReference: DBV6; PackageDescription: 6-Pin Plastic Small Outline, Body 1.6 x 2.9 mm, Pitch 0.95 mm; Supplier 1: Digi-Key; Supplier Part Number 1: ADS7835EB/250G4-ND; Supplier 2: Farnell; Supplier Part Number 2: 1206870; Supplier 3: Newark; Supplier Part Number 3: 96K6238; Supplier 4: Newark; Supplier Part Number 4: 67K7844; Supplier 5: Mouser; Supplier Part Number 5: 595-ADS7835EB/250G4; Digital Supply(Max)(V): 3.6; Digital Supply(Min)(V): 1.2; Eco-Plan: Green (RoHS & no Sb/Br); Mounting Technology: Surface Mount; Code_JEDEC: MO-178; ComponentLink1Description: Manufacturer URL; ComponentLink1URL: http://www.ti.com/; ComponentLink2Description: Datasheet; ComponentLink2URL: http://www.ti.com/general/docs/lit/getliterature.tsp?genericPartNumber=ADS7867&fileType=pdf; ComponentLink3Description: Package Specification; ComponentLink3URL: http://www.ti.com/litv/pdf/mpds026h
footprint TI-DBV6_N (SOT23, 6-Leads, Body 2.9x1.6mm, Pitch 0.95mm, IPC Medium Density)
footprint TI-DBV6_L (SOT23, 6-Leads, Body 2.9x1.6mm, Pitch 0.95mm, IPC High Density)
footprint TI-DBV6_M (SOT23, 6-Leads, Body 2.9x1.6mm, Pitch 0.95mm, IPC Low Density)
pins: 1 REF/VDD (power) "External reference input and power supply", 2 GND (power) "Ground for signal and power supply. All analog and digital signals are referred with respect to this pin.", 3 VIN (in) "Analog signal input", 4 SCLK (in) "Serial clock input. This clock is used for clocking data out, and it is the source of conversion clock.", 5 SDO (hiz) "This is the serial data output of the conversion result. The serial stream comes with MSB first. The MSB is clocked out (changed) on the falling edge one SCLK after the sampling period ends. This results in four leading (See Datasheet)", 6 ~{CS} (in) "This is an active low input signal. It is used as a chip select to gate the SCLK input, to initiate a conversion, and to frame output data."

## ADS7867IDBVTG4
designator U?
1.2 V, 10-Bit 240 kSPS, Serial ADC, -40 to 85 degC, 6-pin SOT23 (DBV6), Green (RoHS & no Sb/Br); Manufacturer: Texas Instruments; PartNumber: ADS7867IDBVTG4; # Input Channels: 1; Analog Voltage AV/DD(Max)(V): 3.6; Analog Voltage AV/DD(Min)(V): 1.2; Architecture: SAR; ENOB(Bits): 9.96; INL(Max)(+/-LSB): 0.5; Interface: Serial SPI; Resolution(Bits): 10; Sample Rate (max)(SPS): 240k; SFDR(dB): 80; SINAD(dB): 61.7; SNR(dB): 61.8; SubFamily: Precision ADC (<=10MSPS); DatasheetVersion: SLAS465; PackageVersion: 4073253-5/K, 03/2006; PackageReference: DBV6; PackageDescription: 6-Pin Plastic Small Outline, Body 1.6 x 2.9 mm, Pitch 0.95 mm; Supplier 1: Digi-Key; Supplier Part Number 1: ADS7835EB/2K5-ND; Supplier 2: Mouser; Supplier Part Number 2: 595-ADS7835EB/2K5; Digital Supply(Max)(V): 3.6; Digital Supply(Min)(V): 1.2; Eco-Plan: Green (RoHS & no Sb/Br); Mounting Technology: Surface Mount; Code_JEDEC: MO-178; ComponentLink1Description: Manufacturer URL; ComponentLink1URL: http://www.ti.com/; ComponentLink2Description: Datasheet; ComponentLink2URL: http://www.ti.com/general/docs/lit/getliterature.tsp?genericPartNumber=ADS7867&fileType=pdf; ComponentLink3Description: Package Specification; ComponentLink3URL: http://www.ti.com/litv/pdf/mpds026h
footprint TI-DBV6_N (SOT23, 6-Leads, Body 2.9x1.6mm, Pitch 0.95mm, IPC Medium Density)
footprint TI-DBV6_L (SOT23, 6-Leads, Body 2.9x1.6mm, Pitch 0.95mm, IPC High Density)
footprint TI-DBV6_M (SOT23, 6-Leads, Body 2.9x1.6mm, Pitch 0.95mm, IPC Low Density)
pins: 1 REF/VDD (power) "External reference input and power supply", 2 GND (power) "Ground for signal and power supply. All analog and digital signals are referred with respect to this pin.", 3 VIN (in) "Analog signal input", 4 SCLK (in) "Serial clock input. This clock is used for clocking data out, and it is the source of conversion clock.", 5 SDO (hiz) "This is the serial data output of the conversion result. The serial stream comes with MSB first. The MSB is clocked out (changed) on the falling edge one SCLK after the sampling period ends. This results in four leading (See Datasheet)", 6 ~{CS} (in) "This is an active low input signal. It is used as a chip select to gate the SCLK input, to initiate a conversion, and to frame output data."

## ADS7868IDBVR
designator U?
1.2 V, 8-Bit 280 kSPS, Serial ADC, -40 to 85 degC, 6-pin SOT23 (DBV6), Green (RoHS & no Sb/Br); Manufacturer: Texas Instruments; PartNumber: ADS7868IDBVR; # Input Channels: 1; Analog Voltage AV/DD(Max)(V): 3.6; Analog Voltage AV/DD(Min)(V): 1.2; Architecture: SAR; INL(Max)(+/-LSB): 0.5; Interface: Serial SPI; Resolution(Bits): 8; Sample Rate (max)(SPS): 280k; SFDR(dB): 67; SINAD(dB): 49.4; SNR(dB): 49.8; SubFamily: Precision ADC (<=10MSPS); DatasheetVersion: SLAS465; PackageVersion: 4073253-5/K, 03/2006; PackageReference: DBV6; PackageDescription: 6-Pin Plastic Small Outline, Body 1.6 x 2.9 mm, Pitch 0.95 mm; Supplier 1: Digi-Key; Supplier Part Number 1: ADS7835EB/2K5G4-ND; Supplier 2: Mouser; Supplier Part Number 2: 595-ADS7835EB/2K5G4; Digital Supply(Max)(V): 3.6; Digital Supply(Min)(V): 1.2; Eco-Plan: Green (RoHS & no Sb/Br); Mounting Technology: Surface Mount; Code_JEDEC: MO-178; ComponentLink1Description: Manufacturer URL; ComponentLink1URL: http://www.ti.com/; ComponentLink2Description: Datasheet; ComponentLink2URL: http://www.ti.com/general/docs/lit/getliterature.tsp?genericPartNumber=ADS7868&fileType=pdf; ComponentLink3Description: Package Specification; ComponentLink3URL: http://www.ti.com/litv/pdf/mpds026h
footprint TI-DBV6_N (SOT23, 6-Leads, Body 2.9x1.6mm, Pitch 0.95mm, IPC Medium Density)
footprint TI-DBV6_L (SOT23, 6-Leads, Body 2.9x1.6mm, Pitch 0.95mm, IPC High Density)
footprint TI-DBV6_M (SOT23, 6-Leads, Body 2.9x1.6mm, Pitch 0.95mm, IPC Low Density)
pins: 1 REF/VDD (power) "External reference input and power supply", 2 GND (power) "Ground for signal and power supply. All analog and digital signals are referred with respect to this pin.", 3 VIN (in) "Analog signal input", 4 SCLK (in) "Serial clock input. This clock is used for clocking data out, and it is the source of conversion clock.", 5 SDO (hiz) "This is the serial data output of the conversion result. The serial stream comes with MSB first. The MSB is clocked out (changed) on the falling edge one SCLK after the sampling period ends. This results in four leading (See Datasheet)", 6 ~{CS} (in) "This is an active low input signal. It is used as a chip select to gate the SCLK input, to initiate a conversion, and to frame output data."

## ADS7868IDBVRG4
designator U?
1.2 V, 8-Bit 280 kSPS, Serial ADC, -40 to 85 degC, 6-pin SOT23 (DBV6), Green (RoHS & no Sb/Br); Manufacturer: Texas Instruments; PartNumber: ADS7868IDBVRG4; # Input Channels: 1; Analog Voltage AV/DD(Max)(V): 3.6; Analog Voltage AV/DD(Min)(V): 1.2; Architecture: SAR; INL(Max)(+/-LSB): 0.5; Interface: Serial SPI; Resolution(Bits): 8; Sample Rate (max)(SPS): 280k; SFDR(dB): 67; SINAD(dB): 49.4; SNR(dB): 49.8; SubFamily: Precision ADC (<=10MSPS); DatasheetVersion: SLAS465; PackageVersion: 4073253-5/K, 03/2006; PackageReference: DBV6; PackageDescription: 6-Pin Plastic Small Outline, Body 1.6 x 2.9 mm, Pitch 0.95 mm; Supplier 1: Digi-Key; Supplier Part Number 1: ADS7842E-ND; Supplier 2: Farnell; Supplier Part Number 2: 6536554; Supplier 3: Newark; Supplier Part Number 3: 74C7173; Supplier 4: Mouser; Supplier Part Number 4: 595-ADS7842E; Digital Supply(Max)(V): 3.6; Digital Supply(Min)(V): 1.2; Eco-Plan: Green (RoHS & no Sb/Br); Mounting Technology: Surface Mount; Code_JEDEC: MO-178; ComponentLink1Description: Manufacturer URL; ComponentLink1URL: http://www.ti.com/; ComponentLink2Description: Datasheet; ComponentLink2URL: http://www.ti.com/general/docs/lit/getliterature.tsp?genericPartNumber=ADS7868&fileType=pdf; ComponentLink3Description: Package Specification; ComponentLink3URL: http://www.ti.com/litv/pdf/mpds026h
footprint TI-DBV6_N (SOT23, 6-Leads, Body 2.9x1.6mm, Pitch 0.95mm, IPC Medium Density)
footprint TI-DBV6_L (SOT23, 6-Leads, Body 2.9x1.6mm, Pitch 0.95mm, IPC High Density)
footprint TI-DBV6_M (SOT23, 6-Leads, Body 2.9x1.6mm, Pitch 0.95mm, IPC Low Density)
pins: 1 REF/VDD (power) "External reference input and power supply", 2 GND (power) "Ground for signal and power supply. All analog and digital signals are referred with respect to this pin.", 3 VIN (in) "Analog signal input", 4 SCLK (in) "Serial clock input. This clock is used for clocking data out, and it is the source of conversion clock.", 5 SDO (hiz) "This is the serial data output of the conversion result. The serial stream comes with MSB first. The MSB is clocked out (changed) on the falling edge one SCLK after the sampling period ends. This results in four leading (See Datasheet)", 6 ~{CS} (in) "This is an active low input signal. It is used as a chip select to gate the SCLK input, to initiate a conversion, and to frame output data."

## ADS7868IDBVT
designator U?
1.2 V, 8-Bit 280 kSPS, Serial ADC, -40 to 85 degC, 6-pin SOT23 (DBV6), Green (RoHS & no Sb/Br); Manufacturer: Texas Instruments; PartNumber: ADS7868IDBVT; # Input Channels: 1; Analog Voltage AV/DD(Max)(V): 3.6; Analog Voltage AV/DD(Min)(V): 1.2; Architecture: SAR; INL(Max)(+/-LSB): 0.5; Interface: Serial SPI; Resolution(Bits): 8; Sample Rate (max)(SPS): 280k; SFDR(dB): 67; SINAD(dB): 49.4; SNR(dB): 49.8; SubFamily: Precision ADC (<=10MSPS); DatasheetVersion: SLAS465; PackageVersion: 4073253-5/K, 03/2006; PackageReference: DBV6; PackageDescription: 6-Pin Plastic Small Outline, Body 1.6 x 2.9 mm, Pitch 0.95 mm; Supplier 1: Digi-Key; Supplier Part Number 1: ADS7842E/1K-ND; Supplier 2: Mouser; Supplier Part Number 2: 595-ADS7842E/1K; Digital Supply(Max)(V): 3.6; Digital Supply(Min)(V): 1.2; Eco-Plan: Green (RoHS & no Sb/Br); Mounting Technology: Surface Mount; Code_JEDEC: MO-178; ComponentLink1Description: Manufacturer URL; ComponentLink1URL: http://www.ti.com/; ComponentLink2Description: Datasheet; ComponentLink2URL: http://www.ti.com/general/docs/lit/getliterature.tsp?genericPartNumber=ADS7868&fileType=pdf; ComponentLink3Description: Package Specification; ComponentLink3URL: http://www.ti.com/litv/pdf/mpds026h
footprint TI-DBV6_N (SOT23, 6-Leads, Body 2.9x1.6mm, Pitch 0.95mm, IPC Medium Density)
footprint TI-DBV6_L (SOT23, 6-Leads, Body 2.9x1.6mm, Pitch 0.95mm, IPC High Density)
footprint TI-DBV6_M (SOT23, 6-Leads, Body 2.9x1.6mm, Pitch 0.95mm, IPC Low Density)
pins: 1 REF/VDD (power) "External reference input and power supply", 2 GND (power) "Ground for signal and power supply. All analog and digital signals are referred with respect to this pin.", 3 VIN (in) "Analog signal input", 4 SCLK (in) "Serial clock input. This clock is used for clocking data out, and it is the source of conversion clock.", 5 SDO (hiz) "This is the serial data output of the conversion result. The serial stream comes with MSB first. The MSB is clocked out (changed) on the falling edge one SCLK after the sampling period ends. This results in four leading (See Datasheet)", 6 ~{CS} (in) "This is an active low input signal. It is used as a chip select to gate the SCLK input, to initiate a conversion, and to frame output data."

## ADS7868IDBVTG4
designator U?
1.2 V, 8-Bit 280 kSPS, Serial ADC, -40 to 85 degC, 6-pin SOT23 (DBV6), Green (RoHS & no Sb/Br); Manufacturer: Texas Instruments; PartNumber: ADS7868IDBVTG4; # Input Channels: 1; Analog Voltage AV/DD(Max)(V): 3.6; Analog Voltage AV/DD(Min)(V): 1.2; Architecture: SAR; INL(Max)(+/-LSB): 0.5; Interface: Serial SPI; Resolution(Bits): 8; Sample Rate (max)(SPS): 280k; SFDR(dB): 67; SINAD(dB): 49.4; SNR(dB): 49.8; SubFamily: Precision ADC (<=10MSPS); DatasheetVersion: SLAS465; PackageVersion: 4073253-5/K, 03/2006; PackageReference: DBV6; PackageDescription: 6-Pin Plastic Small Outline, Body 1.6 x 2.9 mm, Pitch 0.95 mm; Supplier 1: Digi-Key; Supplier Part Number 1: ADS7842E/1KG4-ND; Supplier 2: Newark; Supplier Part Number 2: 03K5013; Supplier 3: Mouser; Supplier Part Number 3: 595-ADS7842E/1KG4; Digital Supply(Max)(V): 3.6; Digital Supply(Min)(V): 1.2; Eco-Plan: Green (RoHS & no Sb/Br); Mounting Technology: Surface Mount; Code_JEDEC: MO-178; ComponentLink1Description: Manufacturer URL; ComponentLink1URL: http://www.ti.com/; ComponentLink2Description: Datasheet; ComponentLink2URL: http://www.ti.com/general/docs/lit/getliterature.tsp?genericPartNumber=ADS7868&fileType=pdf; ComponentLink3Description: Package Specification; ComponentLink3URL: http://www.ti.com/litv/pdf/mpds026h
footprint TI-DBV6_N (SOT23, 6-Leads, Body 2.9x1.6mm, Pitch 0.95mm, IPC Medium Density)
footprint TI-DBV6_L (SOT23, 6-Leads, Body 2.9x1.6mm, Pitch 0.95mm, IPC High Density)
footprint TI-DBV6_M (SOT23, 6-Leads, Body 2.9x1.6mm, Pitch 0.95mm, IPC Low Density)
pins: 1 REF/VDD (power) "External reference input and power supply", 2 GND (power) "Ground for signal and power supply. All analog and digital signals are referred with respect to this pin.", 3 VIN (in) "Analog signal input", 4 SCLK (in) "Serial clock input. This clock is used for clocking data out, and it is the source of conversion clock.", 5 SDO (hiz) "This is the serial data output of the conversion result. The serial stream comes with MSB first. The MSB is clocked out (changed) on the falling edge one SCLK after the sampling period ends. This results in four leading (See Datasheet)", 6 ~{CS} (in) "This is an active low input signal. It is used as a chip select to gate the SCLK input, to initiate a conversion, and to frame output data."